# Altium footprint library PcbLib1.PcbLib: 1 footprints
Each footprint in its own frame and in the unit in brackets; x right, y up, seen from the top. Pads: shape width x height; smd on the part's side, far side on the other; paste and mask are expansions set on the pad; w line width, h text height; cw(c..) or ccw(c..) is an arc to the next point about the centre after c.
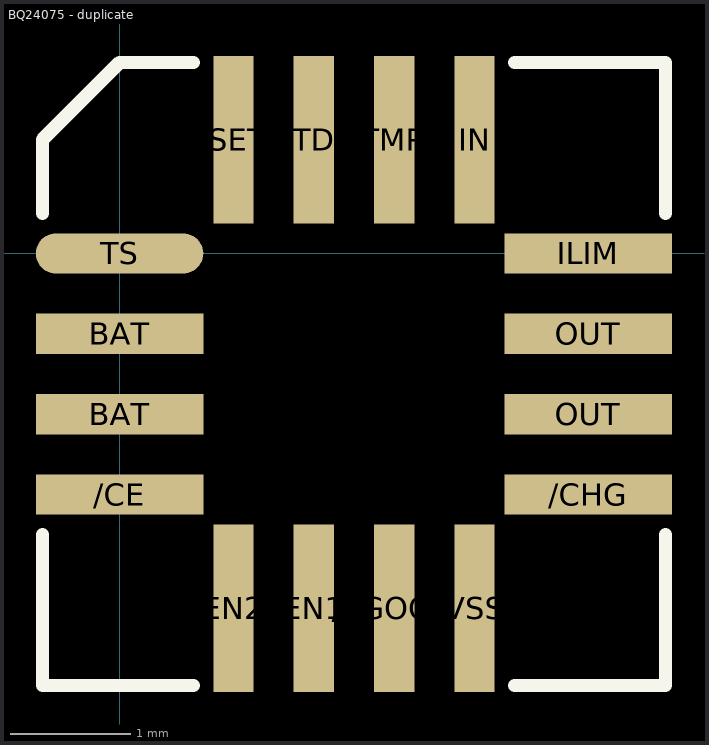
[diagram p0: the footprint, top view; thin cyan lines are the x and y axes]

## BQ24075 - duplicate [mm]
pads (16):
  rect 1.389x0.333 smd: /CE(0,-2) /CHG(3.889,-2) BAT(0,-1.333) BAT(0,-0.667) ILIM(3.889,0) OUT(3.889,-1.333) OUT(3.889,-0.667)
  rect 0.333x1.389 smd: /PGOOD(2.278,-2.944) EN1(1.611,-2.944) EN2(0.944,-2.944) IN(2.944,0.944) ISET(0.944,0.944) TD(1.611,0.944) TMR(2.278,0.944) VSS(2.944,-2.944)
  oval 1.389x0.333 smd: TS(0,0)
Top Overlay:
  lines w0.111: -0.639,-2.333 -0.639,-3.583 0.611,-3.583 ; -0.639,0.333 -0.639,0.944 0,1.583 0.611,1.583 ; 3.278,-3.583 4.528,-3.583 4.528,-2.333 ; 3.278,1.583 4.528,1.583 4.528,0.333